# Altium schematic symbol library ESP32-S3R2.SCHLIB: 1 symbol
Pins are listed as number, name and electrical type; pins without a type are passive.

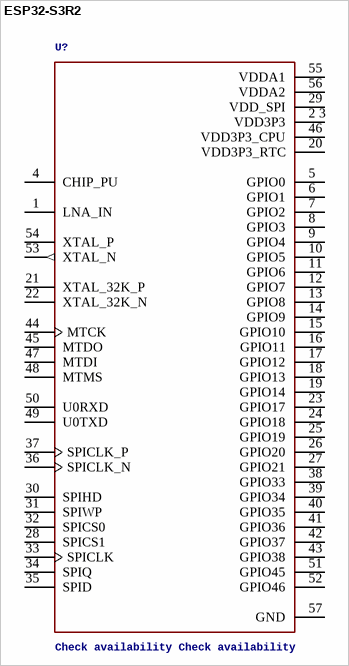
[diagram p0: symbol ESP32-S3R2]

## ESP32-S3R2
designator U?, comment Check availability Check availability
GateName_1: G$1; SymbolName_1: ESP32-S3R2; MF: Espressif Systems; Description: IC RF TxRx + MCU Bluetooth, WiFi 802.11b/g/n, Bluetooth v5.0 2.412GHz ~ 2.484GHz 56-VFQFN Exposed Pad; LibraryName: ESP32-S3R2; DeviceSetName: ESP32-S3R2; Digi-Key_Part_Number: 1904-ESP32-S3R2-ND; Purchase-URL: https://pricing.snapeda.com/search/part/ESP32-S3R2/?ref=eda; Package: None; MP: ESP32-S3R2
footprint QFN40P700X700X90-57N
pins: 1 LNA_IN, 2 3 VDD3P3 (power), 4 CHIP_PU, 5 GPIO0, 6 GPIO1, 7 GPIO2, 8 GPIO3, 9 GPIO4, 10 GPIO5, 11 GPIO6, 12 GPIO7, 13 GPIO8, 14 GPIO9, 15 GPIO10, 16 GPIO11, 17 GPIO12, 18 GPIO13, 19 GPIO14, 20 VDD3P3_RTC (power), 21 XTAL_32K_P, 22 XTAL_32K_N, 23 GPIO17, 24 GPIO18, 25 GPIO19, 26 GPIO20, 27 GPIO21, 28 SPICS1, 29 VDD_SPI (power), 30 SPIHD, 31 SPIWP, 32 SPICS0, 33 SPICLK, 34 SPIQ, 35 SPID, 36 SPICLK_N, 37 SPICLK_P, 38 GPIO33, 39 GPIO34, 40 GPIO35, 41 GPIO36, 42 GPIO37, 43 GPIO38, 44 MTCK, 45 MTDO, 46 VDD3P3_CPU (power), 47 MTDI, 48 MTMS, 49 U0TXD, 50 U0RXD, 51 GPIO45, 52 GPIO46, 53 XTAL_N (out), 54 XTAL_P, 55 VDDA1 (power), 56 VDDA2 (power), 57 GND (power)